# Altium schematic symbol library Capacitors_0603.SchLib: 28 symbols
Pins are listed as number, name and electrical type; pins without a type are passive.

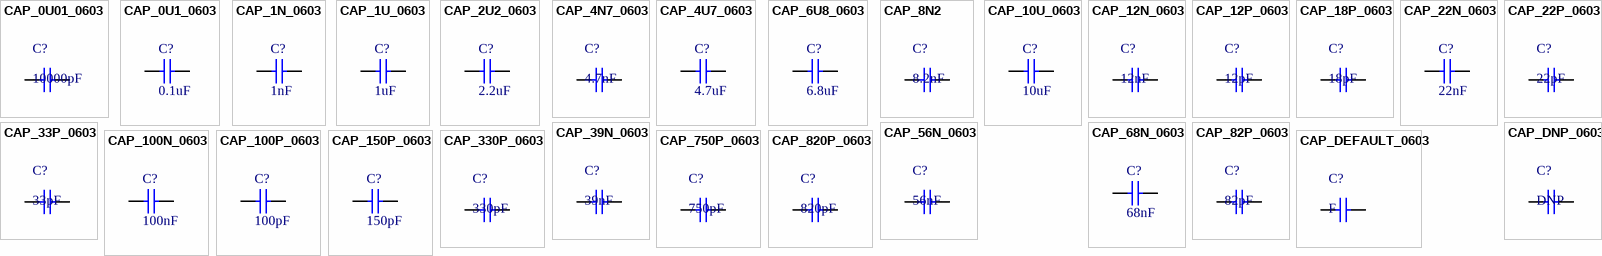
[diagram p0: symbols CAP_0U01_0603 to CAP_DNP_0603]

## CAP_0U01_0603
designator C?, comment 10000pF
CAP CER 10000PF 50V X7R 0603; Dielectric Material: Ceramic; Tolerance: 5%; Capacitance: 18pF; Dielectric: C0G; Temperature Coefficient: 30ppm/°C; Dissipation Factor: 0.1%; RoHS: Yes; Mount: Surface Mount; Case/Package: 0402; Number of Pins: 2; Case Code (Imperial): 0402; Case Code (Metric): 1005; Contact Plating: Tin; Min Operating Temperature: -55°C; Max Operating Temperature: 125°C; Package Quantity: 10000; Voltage Rating: 50V; Voltage Rating (DC): 50V; Packaging: Tape and Reel; Termination: SMD/SMT; Voltage: 50V; Length: 1mm; Height: 0.5mm; Width: 0.5mm; Depth: 0.5mm; Lead Pitch: 0.3mm; Radiation Hardening: No; Lead Free: Lead Free; REACH SVHC: No SVHC; ComponentLink1URL: https://datasheet.ciiva.com/7392/40889-7392233.pdf?src-supplier=Newark; ComponentLink1Description: https://datasheet.ciiva.com/7392/40889-7392233.pdf?src-supplier=Newark; ComponentLink2URL: https://datasheet.ciiva.com/11651/kem-c1003-c0g-smd-11651033.pdf?src-supplier=Avnet; ComponentLink2Description: https://datasheet.ciiva.com/11651/kem-c1003-c0g-smd-11651033.pdf?src-supplier=Avnet; Supplier 1: Digi-Key; Supplier Part Number 1: 399-1091-1-ND
footprint 0603_CAP
pins: 1, 2

## CAP_0U1_0603
designator C?, comment 0.1uF
CAP CER 0.1UF 50V X7R 0603 (100nF); Published: 8-Jun-2000; LatestRevisionDate: 17-Jul-2002; LatestRevisionNote: Re-released for DXP Platform.; PackageReference: RAD-0.3; Publisher: Altium Limited; PackageDescription: Radial Cap, Thru-Hole; 2 Leads; 0.3 in Pin Spacing; Supplier 1: Digi-Key; Supplier Part Number 1: 399-5089-1-ND
footprint 0603_CAP
pins: 1, 2

## CAP_1N_0603
designator C?, comment 1nF
CAP CER 1000PF 200V X7R 0603; Published: 8-Jun-2000; LatestRevisionDate: 17-Jul-2002; LatestRevisionNote: Re-released for DXP Platform.; PackageReference: RAD-0.3; Publisher: Altium Limited; PackageDescription: Radial Cap, Thru-Hole; 2 Leads; 0.3 in Pin Spacing; Supplier 1: Digi-Key; Supplier Part Number 1: 399-11556-1-ND
footprint 0603_CAP
pins: 1, 2

## CAP_1U_0603
designator C?, comment 1uF
CAP CER 1UF 50V X7R 0603; Published: 8-Jun-2000; LatestRevisionDate: 17-Jul-2002; LatestRevisionNote: Re-released for DXP Platform.; PackageReference: RAD-0.3; Publisher: Altium Limited; PackageDescription: Radial Cap, Thru-Hole; 2 Leads; 0.3 in Pin Spacing; Supplier 1: Digi-Key; Supplier Part Number 1: 490-12330-1-ND
footprint 0603_CAP
pins: 1, 2

## CAP_2U2_0603
designator C?, comment 2.2uF
CAP CER 2.2UF 16V X5R 0603; Published: 8-Jun-2000; LatestRevisionDate: 17-Jul-2002; LatestRevisionNote: Re-released for DXP Platform.; PackageReference: RAD-0.3; Publisher: Altium Limited; PackageDescription: Radial Cap, Thru-Hole; 2 Leads; 0.3 in Pin Spacing; Supplier 1: Digi-Key; Supplier Part Number 1: 399-7886-1-ND
footprint 0603_CAP
pins: 1, 2

## CAP_4N7_0603
designator C?, comment 4.7nF
CAP CER 4700PF 50V X7R 0603; Dielectric Material: Ceramic; Tolerance: 5%; Capacitance: 18pF; Dielectric: C0G; Temperature Coefficient: 30ppm/°C; Dissipation Factor: 0.1%; RoHS: Yes; Mount: Surface Mount; Case/Package: 0402; Number of Pins: 2; Case Code (Imperial): 0402; Case Code (Metric): 1005; Contact Plating: Tin; Min Operating Temperature: -55°C; Max Operating Temperature: 125°C; Package Quantity: 10000; Voltage Rating: 50V; Voltage Rating (DC): 50V; Packaging: Tape and Reel; Termination: SMD/SMT; Voltage: 50V; Length: 1mm; Height: 0.5mm; Width: 0.5mm; Depth: 0.5mm; Lead Pitch: 0.3mm; Radiation Hardening: No; Lead Free: Lead Free; REACH SVHC: No SVHC; ComponentLink1URL: https://datasheet.ciiva.com/7392/40889-7392233.pdf?src-supplier=Newark; ComponentLink1Description: https://datasheet.ciiva.com/7392/40889-7392233.pdf?src-supplier=Newark; ComponentLink2URL: https://datasheet.ciiva.com/11651/kem-c1003-c0g-smd-11651033.pdf?src-supplier=Avnet; ComponentLink2Description: https://datasheet.ciiva.com/11651/kem-c1003-c0g-smd-11651033.pdf?src-supplier=Avnet; Supplier 1: Digi-Key; Supplier Part Number 1: 399-1088-1-ND
footprint 0603_CAP
pins: 1, 2

## CAP_4U7_0603
designator C?, comment 4.7uF
CAP CER 4.7UF 25V X5R 0603; Published: 8-Jun-2000; LatestRevisionDate: 17-Jul-2002; LatestRevisionNote: Re-released for DXP Platform.; PackageReference: RAD-0.3; Publisher: Altium Limited; PackageDescription: Radial Cap, Thru-Hole; 2 Leads; 0.3 in Pin Spacing; Supplier 1: Digi-Key; Supplier Part Number 1: 445-9050-1-ND
footprint 0603_CAP
pins: 1, 2

## CAP_6U8_0603
designator C?, comment 6.8uF
CAP CER 6.8UF 25V X5R 0603; Published: 8-Jun-2000; LatestRevisionDate: 17-Jul-2002; LatestRevisionNote: Re-released for DXP Platform.; PackageReference: RAD-0.3; Publisher: Altium Limited; PackageDescription: Radial Cap, Thru-Hole; 2 Leads; 0.3 in Pin Spacing; Supplier 1: Digi-Key; Supplier Part Number 1: 445-14146-1-ND
footprint 0603_CAP
pins: 1, 2

## CAP_8N2
designator C?, comment 8.2nF
CAP CER 8200PF 50V X7R 0603; Supplier 1: Digi-Key; Supplier Part Number 1: 399-C0603C822K5RACAUTOCT-ND
footprint 0603_CAP
pins: 1, 2

## CAP_10U_0603
designator C?, comment 10uF
CAP CER 10UF 10V X5R 0603; Published: 8-Jun-2000; LatestRevisionDate: 17-Jul-2002; LatestRevisionNote: Re-released for DXP Platform.; PackageReference: RAD-0.3; Publisher: Altium Limited; PackageDescription: Radial Cap, Thru-Hole; 2 Leads; 0.3 in Pin Spacing; Supplier 1: Digi-Key; Supplier Part Number 1: 490-10474-1-ND
footprint 0603_CAP
pins: 1, 2

## CAP_12N_0603
designator C?, comment 12nF
CAP CER 0.012UF 50V X7R 0603; Dielectric Material: Ceramic; Tolerance: 5%; Capacitance: 18pF; Dielectric: C0G; Temperature Coefficient: 30ppm/°C; Dissipation Factor: 0.1%; RoHS: Yes; Mount: Surface Mount; Case/Package: 0402; Number of Pins: 2; Case Code (Imperial): 0402; Case Code (Metric): 1005; Contact Plating: Tin; Min Operating Temperature: -55°C; Max Operating Temperature: 125°C; Package Quantity: 10000; Voltage Rating: 50V; Voltage Rating (DC): 50V; Packaging: Tape and Reel; Termination: SMD/SMT; Voltage: 50V; Length: 1mm; Height: 0.5mm; Width: 0.5mm; Depth: 0.5mm; Lead Pitch: 0.3mm; Radiation Hardening: No; Lead Free: Lead Free; REACH SVHC: No SVHC; ComponentLink1URL: https://datasheet.ciiva.com/7392/40889-7392233.pdf?src-supplier=Newark; ComponentLink1Description: https://datasheet.ciiva.com/7392/40889-7392233.pdf?src-supplier=Newark; ComponentLink2URL: https://datasheet.ciiva.com/11651/kem-c1003-c0g-smd-11651033.pdf?src-supplier=Avnet; ComponentLink2Description: https://datasheet.ciiva.com/11651/kem-c1003-c0g-smd-11651033.pdf?src-supplier=Avnet; Supplier 1: Digi-Key; Supplier Part Number 1: 399-7852-1-ND
footprint 0603_CAP
pins: 1, 2

## CAP_12P_0603
designator C?, comment 12pF
CAP CER 12PF 50V C0G/NPO 0603; Dielectric Material: Ceramic; Tolerance: 5%; Capacitance: 18pF; Dielectric: C0G; Temperature Coefficient: 30ppm/°C; Dissipation Factor: 0.1%; RoHS: Yes; Mount: Surface Mount; Case/Package: 0402; Number of Pins: 2; Case Code (Imperial): 0402; Case Code (Metric): 1005; Contact Plating: Tin; Min Operating Temperature: -55°C; Max Operating Temperature: 125°C; Package Quantity: 10000; Voltage Rating: 50V; Voltage Rating (DC): 50V; Packaging: Tape and Reel; Termination: SMD/SMT; Voltage: 50V; Length: 1mm; Height: 0.5mm; Width: 0.5mm; Depth: 0.5mm; Lead Pitch: 0.3mm; Radiation Hardening: No; Lead Free: Lead Free; REACH SVHC: No SVHC; ComponentLink1URL: https://datasheet.ciiva.com/7392/40889-7392233.pdf?src-supplier=Newark; ComponentLink1Description: https://datasheet.ciiva.com/7392/40889-7392233.pdf?src-supplier=Newark; ComponentLink2URL: https://datasheet.ciiva.com/11651/kem-c1003-c0g-smd-11651033.pdf?src-supplier=Avnet; ComponentLink2Description: https://datasheet.ciiva.com/11651/kem-c1003-c0g-smd-11651033.pdf?src-supplier=Avnet; Supplier 1: Digi-Key; Supplier Part Number 1: 311-1059-1-ND
footprint 0603_CAP
pins: 1, 2

## CAP_18P_0603
designator C?, comment 18pF
CAP CER 18PF 50V C0G/NP0 0603; Dielectric Material: Ceramic; Tolerance: 5%; Dielectric: C0G; Temperature Coefficient: 30ppm/°C; Dissipation Factor: 0.1%; RoHS: Yes; Mount: Surface Mount; Case/Package: 0402; Number of Pins: 2; Case Code (Imperial): 0402; Case Code (Metric): 1005; Contact Plating: Tin; Min Operating Temperature: -55°C; Max Operating Temperature: 125°C; Package Quantity: 10000; Voltage Rating: 50V; Voltage Rating (DC): 50V; Packaging: Tape and Reel; Capacitance: 18pF; Termination: SMD/SMT; Voltage: 50V; Length: 1mm; Height: 0.5mm; Width: 0.5mm; Depth: 0.5mm; Lead Pitch: 0.3mm; Radiation Hardening: No; Lead Free: Lead Free; REACH SVHC: No SVHC; ComponentLink1URL: https://datasheet.ciiva.com/7392/40889-7392233.pdf?src-supplier=Newark; ComponentLink1Description: https://datasheet.ciiva.com/7392/40889-7392233.pdf?src-supplier=Newark; ComponentLink2URL: https://datasheet.ciiva.com/11651/kem-c1003-c0g-smd-11651033.pdf?src-supplier=Avnet; ComponentLink2Description: https://datasheet.ciiva.com/11651/kem-c1003-c0g-smd-11651033.pdf?src-supplier=Avnet; Supplier 1: Digi-Key; Supplier Part Number 1: 478-1166-1-ND
footprint 0603_CAP
pins: 1, 2

## CAP_22N_0603
designator C?, comment 22nF
CAP CER 0.022UF 50V X7R 0603; Published: 8-Jun-2000; LatestRevisionDate: 17-Jul-2002; LatestRevisionNote: Re-released for DXP Platform.; Publisher: Altium Limited; PackageDescription: Radial Cap, Thru-Hole; 2 Leads; 0.3 in Pin Spacing; PackageReference: RAD-0.3; Supplier 1: Digi-Key; Supplier Part Number 1: 445-5894-1-ND
footprint 0603_CAP
pins: 1, 2

## CAP_22P_0603
designator C?, comment 22pF
CAP CER 22PF 100V C0G/NP0 0603; Dielectric Material: Ceramic; Voltage Rating: 50V; Tolerance: 5%; Capacitance: 18pF; Dielectric: C0G; Temperature Coefficient: 30ppm/°C; Dissipation Factor: 0.1%; RoHS: Yes; Mount: Surface Mount; Case/Package: 0402; Number of Pins: 2; Case Code (Imperial): 0402; Case Code (Metric): 1005; Contact Plating: Tin; Min Operating Temperature: -55°C; Max Operating Temperature: 125°C; Package Quantity: 10000; Voltage Rating (DC): 50V; Packaging: Tape and Reel; Termination: SMD/SMT; Voltage: 50V; Length: 1mm; Height: 0.5mm; Width: 0.5mm; Depth: 0.5mm; Lead Pitch: 0.3mm; Radiation Hardening: No; Lead Free: Lead Free; REACH SVHC: No SVHC; ComponentLink1URL: https://datasheet.ciiva.com/7392/40889-7392233.pdf?src-supplier=Newark; ComponentLink1Description: https://datasheet.ciiva.com/7392/40889-7392233.pdf?src-supplier=Newark; ComponentLink2URL: https://datasheet.ciiva.com/11651/kem-c1003-c0g-smd-11651033.pdf?src-supplier=Avnet; ComponentLink2Description: https://datasheet.ciiva.com/11651/kem-c1003-c0g-smd-11651033.pdf?src-supplier=Avnet; Supplier 1: Digi-Key; Supplier Part Number 1: 399-7874-1-ND
footprint 0603_CAP
pins: 1, 2

## CAP_33P_0603
designator C?, comment 33pF
CAP CER 33PF 50V C0G/NP0 0603; Dielectric Material: Ceramic; Tolerance: 5%; Capacitance: 18pF; Dielectric: C0G; Temperature Coefficient: 30ppm/°C; Dissipation Factor: 0.1%; RoHS: Yes; Mount: Surface Mount; Case/Package: 0402; Number of Pins: 2; Case Code (Imperial): 0402; Case Code (Metric): 1005; Contact Plating: Tin; Min Operating Temperature: -55°C; Max Operating Temperature: 125°C; Package Quantity: 10000; Voltage Rating: 50V; Voltage Rating (DC): 50V; Packaging: Tape and Reel; Termination: SMD/SMT; Voltage: 50V; Length: 1mm; Height: 0.5mm; Width: 0.5mm; Depth: 0.5mm; Lead Pitch: 0.3mm; Radiation Hardening: No; Lead Free: Lead Free; REACH SVHC: No SVHC; ComponentLink1URL: https://datasheet.ciiva.com/7392/40889-7392233.pdf?src-supplier=Newark; ComponentLink1Description: https://datasheet.ciiva.com/7392/40889-7392233.pdf?src-supplier=Newark; ComponentLink2URL: https://datasheet.ciiva.com/11651/kem-c1003-c0g-smd-11651033.pdf?src-supplier=Avnet; ComponentLink2Description: https://datasheet.ciiva.com/11651/kem-c1003-c0g-smd-11651033.pdf?src-supplier=Avnet; Supplier 1: Digi-Key; Supplier Part Number 1: 399-1055-1-ND
footprint 0603_CAP
pins: 1, 2

## CAP_39N_0603
designator C?, comment 39nF
CAP CER 0.039UF 50V X7R 0603; Dielectric Material: Ceramic; Tolerance: 5%; Capacitance: 18pF; Dielectric: C0G; Temperature Coefficient: 30ppm/°C; Dissipation Factor: 0.1%; RoHS: Yes; Mount: Surface Mount; Case/Package: 0402; Number of Pins: 2; Case Code (Imperial): 0402; Case Code (Metric): 1005; Contact Plating: Tin; Min Operating Temperature: -55°C; Max Operating Temperature: 125°C; Package Quantity: 10000; Voltage Rating: 50V; Voltage Rating (DC): 50V; Packaging: Tape and Reel; Termination: SMD/SMT; Voltage: 50V; Length: 1mm; Height: 0.5mm; Width: 0.5mm; Depth: 0.5mm; Lead Pitch: 0.3mm; Radiation Hardening: No; Lead Free: Lead Free; REACH SVHC: No SVHC; ComponentLink1URL: https://datasheet.ciiva.com/7392/40889-7392233.pdf?src-supplier=Newark; ComponentLink1Description: https://datasheet.ciiva.com/7392/40889-7392233.pdf?src-supplier=Newark; ComponentLink2URL: https://datasheet.ciiva.com/11651/kem-c1003-c0g-smd-11651033.pdf?src-supplier=Avnet; ComponentLink2Description: https://datasheet.ciiva.com/11651/kem-c1003-c0g-smd-11651033.pdf?src-supplier=Avnet; Supplier 1: Digi-Key; Supplier Part Number 1: 399-C0603C393K5RACAUTOCT-ND
footprint 0603_CAP
pins: 1, 2

## CAP_56N_0603
designator C?, comment 56nF
CAP CER 0.056UF 50V X7R 0603; Supplier 1: Digi-Key; Supplier Part Number 1: 399-C0603C563K5RACAUTOCT-ND
footprint 0603_CAP
pins: 1, 2

## CAP_68N_0603
designator C?, comment 68nF
CAP CER 0.068UF 50V X7R 0603; Published: 8-Jun-2000; LatestRevisionDate: 17-Jul-2002; LatestRevisionNote: Re-released for DXP Platform.; Publisher: Altium Limited; PackageDescription: Radial Cap, Thru-Hole; 2 Leads; 0.3 in Pin Spacing; PackageReference: RAD-0.3; Supplier 1: Digi-Key; Supplier Part Number 1: 1276-6541-1-ND
footprint 0603_CAP
pins: 1, 2

## CAP_82P_0603
designator C?, comment 82pF
CAP CER 82PF 50V C0G/NP0 0603; Dielectric Material: Ceramic; Tolerance: 5%; Capacitance: 18pF; Dielectric: C0G; Temperature Coefficient: 30ppm/°C; Dissipation Factor: 0.1%; Mount: Surface Mount; Case/Package: 0402; Number of Pins: 2; Case Code (Imperial): 0402; Case Code (Metric): 1005; Contact Plating: Tin; Min Operating Temperature: -55°C; Max Operating Temperature: 125°C; Package Quantity: 10000; Voltage Rating: 50V; Voltage Rating (DC): 50V; Packaging: Tape and Reel; Termination: SMD/SMT; Voltage: 50V; Length: 1mm; Height: 0.5mm; Width: 0.5mm; Depth: 0.5mm; Lead Pitch: 0.3mm; Radiation Hardening: No; Lead Free: Lead Free; REACH SVHC: No SVHC; ComponentLink1URL: https://datasheet.ciiva.com/7392/40889-7392233.pdf?src-supplier=Newark; ComponentLink1Description: https://datasheet.ciiva.com/7392/40889-7392233.pdf?src-supplier=Newark; ComponentLink2URL: https://datasheet.ciiva.com/11651/kem-c1003-c0g-smd-11651033.pdf?src-supplier=Avnet; ComponentLink2Description: https://datasheet.ciiva.com/11651/kem-c1003-c0g-smd-11651033.pdf?src-supplier=Avnet; Supplier 1: Digi-Key; Supplier Part Number 1: 478-1174-1-ND; RoHS: Yes
footprint 0603_CAP
pins: 1, 2

## CAP_100N_0603
designator C?, comment 100nF
CAP CER 0.1UF 50V X7R 0603; Published: 8-Jun-2000; LatestRevisionDate: 17-Jul-2002; LatestRevisionNote: Re-released for DXP Platform.; Publisher: Altium Limited; PackageDescription: Radial Cap, Thru-Hole; 2 Leads; 0.3 in Pin Spacing; PackageReference: RAD-0.3; Supplier 1: Digi-Key; Supplier Part Number 1: 445-5666-1-ND
footprint 0603_CAP
pins: 1, 2

## CAP_100P_0603
designator C?, comment 100pF
CAP CER 100PF 50V C0G/NPO 0603; Published: 8-Jun-2000; LatestRevisionDate: 17-Jul-2002; LatestRevisionNote: Re-released for DXP Platform.; Publisher: Altium Limited; PackageDescription: Radial Cap, Thru-Hole; 2 Leads; 0.3 in Pin Spacing; PackageReference: RAD-0.3; Supplier 1: Digi-Key; Supplier Part Number 1: 399-6843-1-ND
footprint 0603_CAP
pins: 1, 2

## CAP_150P_0603
designator C?, comment 150pF
CAP CER 150PF 50V C0G/NPO 0603; Published: 8-Jun-2000; LatestRevisionDate: 17-Jul-2002; LatestRevisionNote: Re-released for DXP Platform.; Publisher: Altium Limited; PackageDescription: Radial Cap, Thru-Hole; 2 Leads; 0.3 in Pin Spacing; PackageReference: RAD-0.3; Supplier 1: Digi-Key; Supplier Part Number 1: 399-6860-1-ND
footprint 0603_CAP
pins: 1, 2

## CAP_330P_0603
designator C?, comment 330pF
CAP CER 330PF 50V C0G/NP0 0603; Supplier 1: Digi-Key; Supplier Part Number 1: 1276-2271-1-ND
footprint 0603_CAP
pins: 1, 2

## CAP_750P_0603
designator C?, comment 750pF
CAP CER 750PF 250V C0G/NP0 0603; Supplier 1: Digi-Key; Supplier Part Number 1: 399-C0603C751JAGACAUTOCT-ND
footprint 0603_CAP
pins: 1, 2

## CAP_820P_0603
designator C?, comment 820pF
CAP CER 820PF 250V C0G/NP0 0603; Dielectric Material: Ceramic; Voltage Rating: 50V; Tolerance: 5%; Capacitance: 18pF; Dielectric: C0G; Temperature Coefficient: 30ppm/°C; Dissipation Factor: 0.1%; RoHS: Yes; Mount: Surface Mount; Case/Package: 0402; Number of Pins: 2; Case Code (Imperial): 0402; Case Code (Metric): 1005; Contact Plating: Tin; Min Operating Temperature: -55°C; Max Operating Temperature: 125°C; Package Quantity: 10000; Voltage Rating (DC): 50V; Packaging: Tape and Reel; Termination: SMD/SMT; Voltage: 50V; Length: 1mm; Height: 0.5mm; Width: 0.5mm; Depth: 0.5mm; Lead Pitch: 0.3mm; Radiation Hardening: No; Lead Free: Lead Free; REACH SVHC: No SVHC; ComponentLink1URL: https://datasheet.ciiva.com/7392/40889-7392233.pdf?src-supplier=Newark; ComponentLink1Description: https://datasheet.ciiva.com/7392/40889-7392233.pdf?src-supplier=Newark; ComponentLink2URL: https://datasheet.ciiva.com/11651/kem-c1003-c0g-smd-11651033.pdf?src-supplier=Avnet; ComponentLink2Description: https://datasheet.ciiva.com/11651/kem-c1003-c0g-smd-11651033.pdf?src-supplier=Avnet; Supplier 1: Digi-Key; Supplier Part Number 1: 399-11890-1-ND
footprint 0603_CAP
pins: 1, 2

## CAP_DEFAULT_0603
designator C?, comment F
footprint 0603_CAP
pins: 1, 2

## CAP_DNP_0603
designator C?, comment DNP
footprint 0603_CAP-DNP
pins: 1, 2